# EAGLE library part ADS7809P (library burr-brown)
16-Bit, 100 kSPS ADC
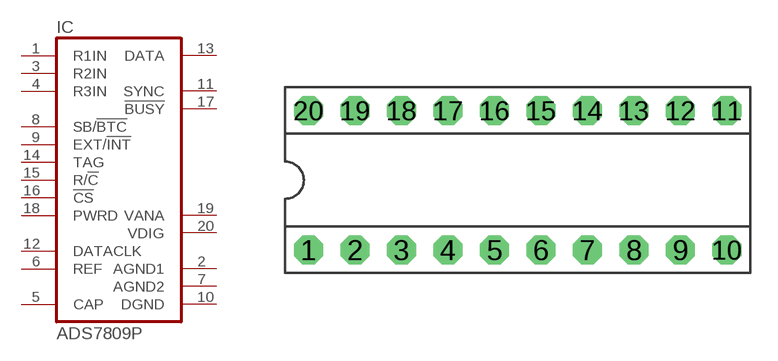
[diagram p49: symbol with the pads of DIP-20; footprint DIP-20]

Designator prefix IC

## ADS7809P  [DIP-20]
1  R1IN  in
2  AGND1  pwr
3  R2IN  in
4  R3IN  in
5  CAP  pas
6  REF
7  AGND2  pwr
8  SB/!BTC  in
9  EXT/!INT  in
10  DGND  pwr
11  SYNC  out
12  DATACLK
13  DATA  out
14  TAG  in
15  R/!C  in
16  !CS  in
17  !BUSY  out
18  PWRD  in
19  VANA  pwr
20  VDIG  pwr

## Footprint DIP-20 (pad centres in mm)
drill 0.813 pad 1.6 octagon: 1 -11.43,-3.81; 2 -8.89,-3.81; 3 -6.35,-3.81; 4 -3.81,-3.81; 5 -1.27,-3.81; 6 1.27,-3.81; 7 3.81,-3.81; 8 6.35,-3.81; 9 8.89,-3.81; 10 11.43,-3.81; 11 11.43,3.81; 12 8.89,3.81; 13 6.35,3.81; 14 3.81,3.81; 15 1.27,3.81; 16 -1.27,3.81; 17 -3.81,3.81; 18 -6.35,3.81; 19 -8.89,3.81; 20 -11.43,3.81